# Altium schematic symbol library ATSAME70Q21B-CN.Schlib: 1 symbol
Pins are listed as number, name and electrical type; pins without a type are passive.

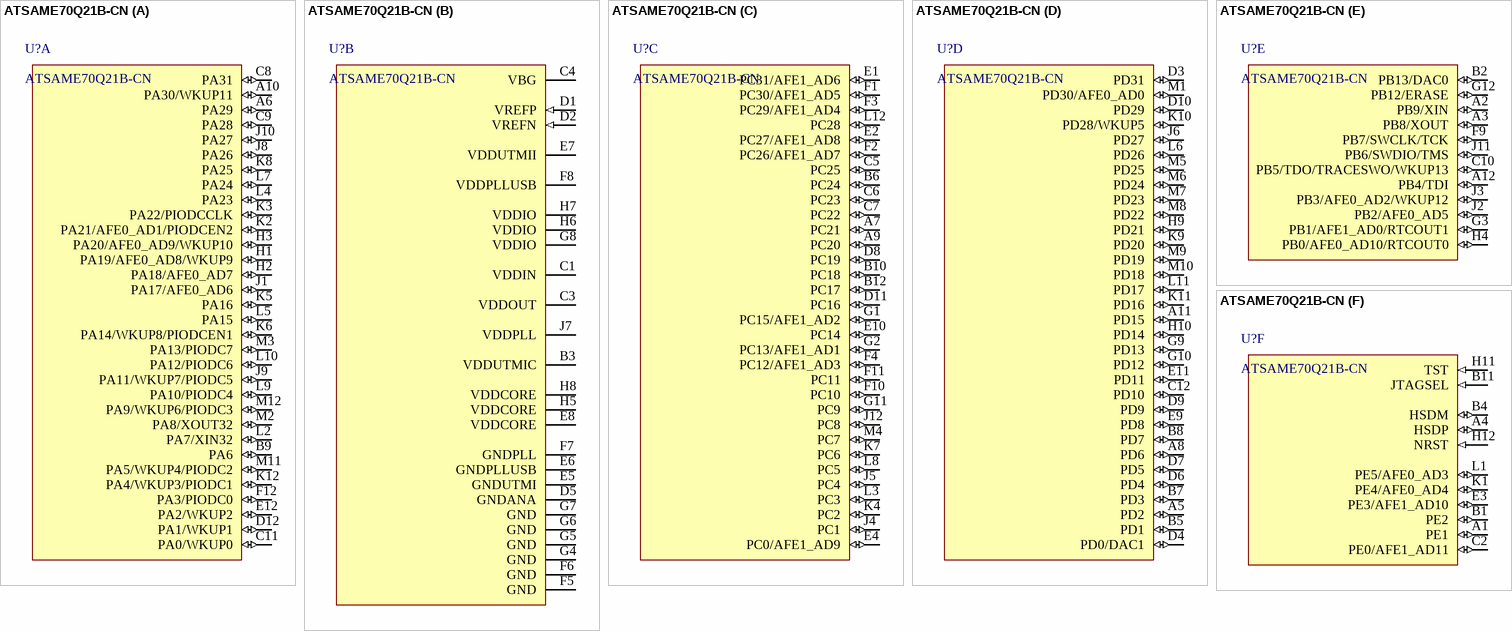
[diagram p0: symbol ATSAME70Q21B-CN]

## ATSAME70Q21B-CN
designator U?
ARM® Cortex®-M7 series Microcontroller IC 32-Bit 300MHz 2MB (2M x 8) FLASH 144-LFBGA (10x10)
part A pins: A6 PA29 (io), A10 PA30/WKUP11 (io), B9 PA6 (io), C8 PA31 (io), C9 PA28 (io), C11 PA0/WKUP0 (io), D12 PA1/WKUP1 (io), E12 PA2/WKUP2 (io), F12 PA3/PIODC0 (io), H1 PA19/AFE0_AD8/WKUP9 (io), H2 PA18/AFE0_AD7 (io), H3 PA20/AFE0_AD9/WKUP10 (io), J1 PA17/AFE0_AD6 (io), J8 PA26 (io), J9 PA11/WKUP7/PIODC5 (io), J10 PA27 (io), K2 PA21/AFE0_AD1/PIODCEN2 (io), K3 PA22/PIODCCLK (io), K5 PA16 (io), K6 PA14/WKUP8/PIODCEN1 (io), K8 PA25 (io), K12 PA4/WKUP3/PIODC1 (io), L2 PA7/XIN32 (io), L4 PA23 (io), L5 PA15 (io), L7 PA24 (io), L9 PA10/PIODC4 (io), L10 PA12/PIODC6 (io), M2 PA8/XOUT32 (io), M3 PA13/PIODC7 (io), M11 PA5/WKUP4/PIODC2 (io), M12 PA9/WKUP6/PIODC3 (io)
part B pins: B3 VDDUTMIC (power), C1 VDDIN (power), C3 VDDOUT (power), C4 VBG, D1 VREFP (in), D2 VREFN (in), D5 GNDANA (power), E5 GNDUTMI (power), E6 GNDPLLUSB (power), E7 VDDUTMII (power), E8 VDDCORE (power), F5 GND (power), F6 GND (power), F7 GNDPLL (power), F8 VDDPLLUSB (power), G4 GND (power), G5 GND (power), G6 GND (power), G7 GND (power), G8 VDDIO (power), H5 VDDCORE (power), H6 VDDIO (power), H7 VDDIO (power), H8 VDDCORE (power), J7 VDDPLL (power)
part C pins: A7 PC21 (io), A9 PC20 (io), B6 PC24 (io), B10 PC18 (io), B12 PC17 (io), C5 PC25 (io), C6 PC23 (io), C7 PC22 (io), D8 PC19 (io), D11 PC16 (io), E1 PC31/AFE1_AD6 (io), E2 PC27/AFE1_AD8 (io), E4 PC0/AFE1_AD9 (io), E10 PC14 (io), F1 PC30/AFE1_AD5 (io), F2 PC26/AFE1_AD7 (io), F3 PC29/AFE1_AD4 (io), F4 PC12/AFE1_AD3 (io), F10 PC10 (io), F11 PC11 (io), G1 PC15/AFE1_AD2 (io), G2 PC13/AFE1_AD1 (io), G11 PC9 (io), J4 PC1 (io), J5 PC4 (io), J12 PC8 (io), K4 PC2 (io), K7 PC6 (io), L3 PC3 (io), L8 PC5 (io), L12 PC28 (io), M4 PC7 (io)
part D pins: A5 PD2 (io), A8 PD6 (io), A11 PD15 (io), B5 PD1 (io), B7 PD3 (io), B8 PD7 (io), C12 PD10 (io), D3 PD31 (io), D4 PD0/DAC1 (io), D6 PD4 (io), D7 PD5 (io), D9 PD9 (io), D10 PD29 (io), E9 PD8 (io), E11 PD11 (io), G9 PD13 (io), G10 PD12 (io), H9 PD21 (io), H10 PD14 (io), J6 PD27 (io), K9 PD20 (io), K10 PD28/WKUP5 (io), K11 PD16 (io), L6 PD26 (io), L11 PD17 (io), M1 PD30/AFE0_AD0 (io), M5 PD25 (io), M6 PD24 (io), M7 PD23 (io), M8 PD22 (io), M9 PD19 (io), M10 PD18 (io)
part E pins: A2 PB9/XIN (io), A3 PB8/XOUT (io), A12 PB4/TDI (io), B2 PB13/DAC0 (io), C10 PB5/TDO/TRACESWO/WKUP13 (io), F9 PB7/SWCLK/TCK (io), G3 PB1/AFE1_AD0/RTCOUT1 (io), G12 PB12/ERASE (io), H4 PB0/AFE0_AD10/RTCOUT0 (io), J2 PB2/AFE0_AD5 (io), J3 PB3/AFE0_AD2/WKUP12 (io), J11 PB6/SWDIO/TMS (io)
part F pins: A1 PE1 (io), A4 HSDP (io), B1 PE2 (io), B4 HSDM (io), B11 JTAGSEL (in), C2 PE0/AFE1_AD11 (io), E3 PE3/AFE1_AD10 (io), H11 TST (in), H12 NRST (in), K1 PE4/AFE0_AD4 (io), L1 PE5/AFE0_AD3 (io)